# Altium footprint library PcbLib1.PcbLib: 8 footprints
Each footprint in its own frame and in the unit in brackets; x right, y up, seen from the top. Pads: shape width x height; smd on the part's side, far side on the other; paste and mask are expansions set on the pad; w line width, h text height; cw(c..) or ccw(c..) is an arc to the next point about the centre after c.
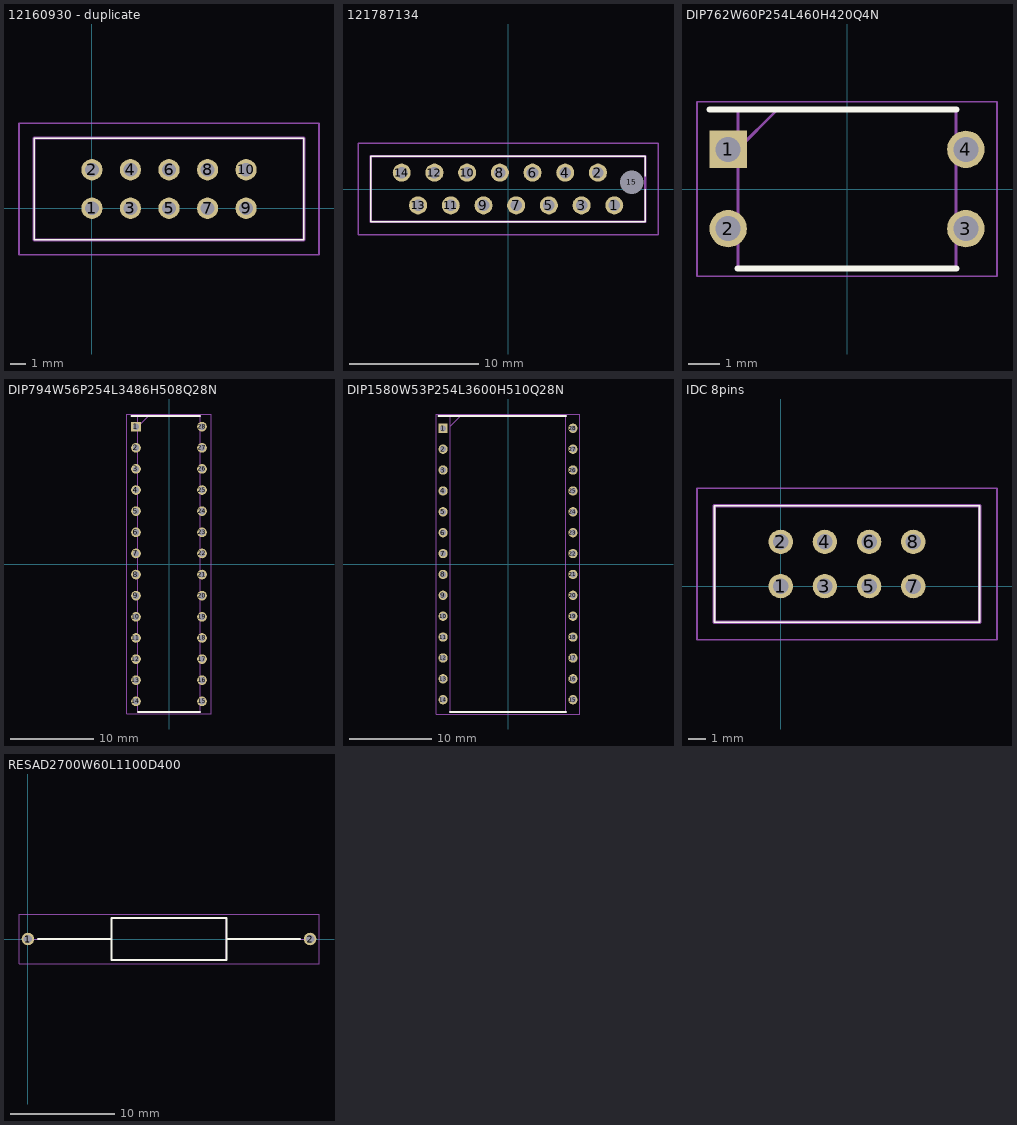
[diagram p0: the footprints below, top view; thin cyan lines are the x and y axes]

## 12160930 - duplicate [mm]
pads (10):
  round 1.4 hole 0.9: 1(0,0) 2(0,2.54) 3(2.54,0) 4(2.54,2.54) 5(5.08,0) 6(5.08,2.54) 7(7.62,0) 8(7.62,2.54) 9(10.16,0) 10(10.16,2.54)
Top Overlay:
  lines w0.1: -3.81,-2.08 -3.81,4.62 13.97,4.62 13.97,-2.08 -3.81,-2.08
Mechanical 13:
  lines w0.2: -3.81,-2.08 -3.81,4.62 13.97,4.62 13.97,-2.08 -3.81,-2.08
Mechanical 15:
  lines w0.1: -4.81,-3.08 -4.81,5.62 14.97,5.62 14.97,-3.08 -4.81,-3.08
3D body "1-216093-0.stp": height 6.56, standoff -3.05, extent -3.81,-2.09 13.97,4.63

## 121787134 [mm]
pads (15):
  round 1.4 hole 0.9: 1(8.255,-1.27) 2(6.985,1.27) 3(5.715,-1.27) 4(4.445,1.27) 5(3.175,-1.27) 6(1.905,1.27) 7(0.635,-1.27) 8(-0.635,1.27) 9(-1.905,-1.27) 10(-3.175,1.27) 11(-4.445,-1.27) 12(-5.715,1.27) 13(-6.985,-1.27) 14(-8.255,1.27)
  round 0.925 hole 1.85 unplated: 15(9.605,0.53)
Top Overlay:
  lines w0.1: 10.65,0 10.65,-2.55 -10.65,-2.55 -10.65,-2.5 -10.65,2.55 10.65,2.55 10.65,1
Mechanical 13:
  lines w0.2: -10.65,-2.55 10.65,-2.55 10.65,2.55 -10.65,2.55 -10.65,-2.55
Mechanical 15:
  lines w0.1: -11.65,-3.55 11.65,-3.55 11.65,3.55 -11.65,3.55 -11.65,-3.55
3D body "1-2178713-4.stp": height 5.1, standoff -3.1, extent -10.58,-2.5 10.58,2.5

## DIP762W60P254L460H420Q4N [mm]
pads (4):
  rect 1.2x1.2 hole 0.8: 1(-3.81,1.27)
  round 1.2 hole 0.8: 2(-3.81,-1.27) 3(3.81,-1.27) 4(3.81,1.27)
Top Overlay:
  lines w0.2: -4.41,2.55 3.5,2.55 ; -3.5,-2.55 3.5,-2.55
Mechanical 13:
  lines w0.1: -3.5,1.28 -2.23,2.55 ; -3.5,-2.55 3.5,-2.55 3.5,2.55 -3.5,2.55 -3.5,-2.55
Mechanical 15:
  lines w0.05: -4.81,-2.8 4.81,-2.8 4.81,2.8 -4.81,2.8 -4.81,-2.8
3D body "LTV-817-B.stp": height 4.2, standoff -3.5, extent -3.96,-2.3 3.96,2.3

## DIP794W56P254L3486H508Q28N [mm]
pads (28):
  rect 1.159x1.159 hole 0.759: 1(-3.969,16.51)
  round 1.159 hole 0.759: 2(-3.969,13.97) 3(-3.969,11.43) 4(-3.969,8.89) 5(-3.969,6.35) 6(-3.969,3.81) 7(-3.969,1.27) 8(-3.969,-1.27) 9(-3.969,-3.81) 10(-3.969,-6.35) 11(-3.969,-8.89) 12(-3.969,-11.43) 13(-3.969,-13.97) 14(-3.969,-16.51) 15(3.969,-16.51) 16(3.969,-13.97) 17(3.969,-11.43) 18(3.969,-8.89) 19(3.969,-6.35) 20(3.969,-3.81) 21(3.969,-1.27) 22(3.969,1.27) 23(3.969,3.81) 24(3.969,6.35) 25(3.969,8.89) 26(3.969,11.43) 27(3.969,13.97) 28(3.969,16.51)
Top Overlay:
  lines w0.2: -4.548,17.78 3.746,17.78 ; -3.746,-17.78 3.746,-17.78
Mechanical 13:
  lines w0.1: -3.746,16.51 -2.476,17.78 ; -3.746,-17.78 -3.746,17.78 3.746,17.78 3.746,-17.78 -3.746,-17.78
Mechanical 15:
  lines w0.05: -5.084,-18.03 -5.084,18.03 5.084,18.03 5.084,-18.03 -5.084,-18.03
3D body "MCP23017-E_SP.stp": height 5.08, standoff -3.5, extent -4.109,-17.431 4.109,17.431

## DIP1580W53P254L3600H510Q28N [mm]
pads (28):
  rect 1.13x1.13 hole 0.73: 1(-7.9,16.51)
  round 1.13 hole 0.73: 2(-7.9,13.97) 3(-7.9,11.43) 4(-7.9,8.89) 5(-7.9,6.35) 6(-7.9,3.81) 7(-7.9,1.27) 8(-7.9,-1.27) 9(-7.9,-3.81) 10(-7.9,-6.35) 11(-7.9,-8.89) 12(-7.9,-11.43) 13(-7.9,-13.97) 14(-7.9,-16.51) 15(7.9,-16.51) 16(7.9,-13.97) 17(7.9,-11.43) 18(7.9,-8.89) 19(7.9,-6.35) 20(7.9,-3.81) 21(7.9,-1.27) 22(7.9,1.27) 23(7.9,3.81) 24(7.9,6.35) 25(7.9,8.89) 26(7.9,11.43) 27(7.9,13.97) 28(7.9,16.51)
Top Overlay:
  lines w0.2: -8.465,18 7.05,18 ; -7.05,-18 7.05,-18
Mechanical 13:
  lines w0.1: -7.05,16.73 -5.78,18 ; -7.05,-18 -7.05,18 7.05,18 7.05,-18 -7.05,-18
Mechanical 15:
  lines w0.05: -8.715,-18.25 -8.715,18.25 8.715,18.25 8.715,-18.25 -8.715,-18.25
3D body "PCA82C200P.stp": height 5.1, standoff -3.5, extent -8.033,-18 8.033,18

## IDC 8pins [mm]
pads (8):
  round 1.4 hole 0.9: 1(0,0) 2(0,2.54) 3(2.54,0) 4(2.54,2.54) 5(5.08,0) 6(5.08,2.54) 7(7.62,0) 8(7.62,2.54)
Top Overlay:
  lines w0.1: 11.405,4.62 -3.81,4.62 -3.81,-2.08 11.43,-2.08 11.43,-0.405 11.43,2.945 11.43,4.62
Mechanical 13:
  lines w0.2: 11.405,4.62 -3.81,4.62 -3.81,-2.08 11.43,-2.08 11.43,4.62
Mechanical 15:
  lines w0.1: 12.421,-3.08 -4.81,-3.08 -4.81,5.62 12.421,5.62 ; 12.43,-3.08 12.43,5.62

## PCBComponent_1 [mm]

## RESAD2700W60L1100D400 [mm]
pads (2):
  round 1.2 hole 0.8: 1(0,0) 2(27,0)
Top Overlay:
  lines w0.2: 0.95,0 8,0 ; 19,0 26.05,0 ; 8,-2 19,-2 19,2 8,2 8,-2
Mechanical 13:
  lines w0.1: 0,0 8,0 ; 19,0 27,0 ; 8,-2 19,-2 19,2 8,2 8,-2
Mechanical 15:
  lines w0.05: -0.85,-2.35 27.85,-2.35 27.85,2.35 -0.85,2.35 -0.85,-2.35
3D body "CF100-1K5-J-TB-070-62.stp": height 4.5, standoff -4.5, extent -0.298,-2.247 27.3,2.247